# EAGLE library part JS16 (library freescale)
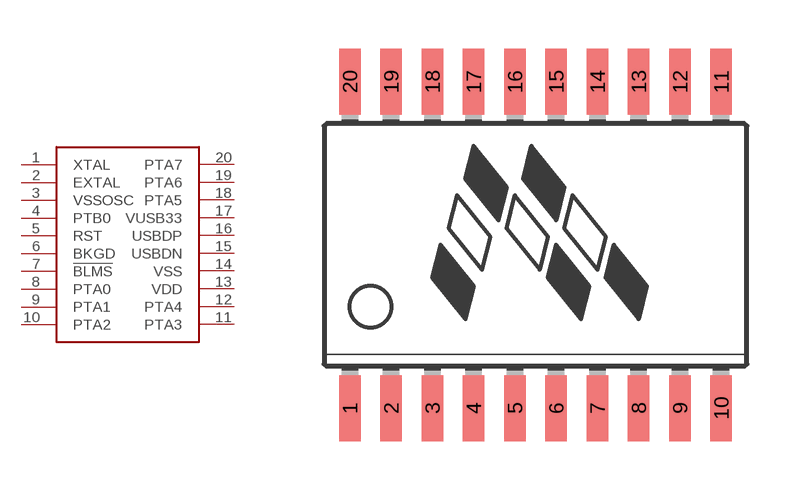
[diagram p6: symbol with the pads of SOIC20; footprint SOIC20]

Designator prefix IC

## JS16  [SOIC20]
1  XTAL
2  EXTAL
3  VSSOSC
4  PTB0
5  RST
6  BKGD
7  !BLMS
8  PTA0
9  PTA1
10  PTA2
11  PTA3
12  PTA4
13  VDD
14  VSS
15  USBDN
16  USBDP
17  VUSB33
18  PTA5
19  PTA6
20  PTA7

## Footprint SOIC20 (pad centres in mm)
smd 0.66 x 2.032: 1 -5.715,-5.029; 2 -4.445,-5.029; 3 -3.175,-5.029; 4 -1.905,-5.029; 5 -0.635,-5.029; 6 0.635,-5.029; 7 1.905,-5.029; 8 3.175,-5.029; 9 4.445,-5.029; 10 5.715,-5.029; 11 5.715,5.029; 12 4.445,5.029; 13 3.175,5.029; 14 1.905,5.029; 15 0.635,5.029; 16 -0.635,5.029; 17 -1.905,5.029; 18 -3.175,5.029; 19 -4.445,5.029; 20 -5.715,5.029